# Altium footprint library Generic.PcbLib: 5 footprints
Each footprint in its own frame and in the unit in brackets; x right, y up, seen from the top. Pads: shape width x height; smd on the part's side, far side on the other; paste and mask are expansions set on the pad; w line width, h text height; cw(c..) or ccw(c..) is an arc to the next point about the centre after c.
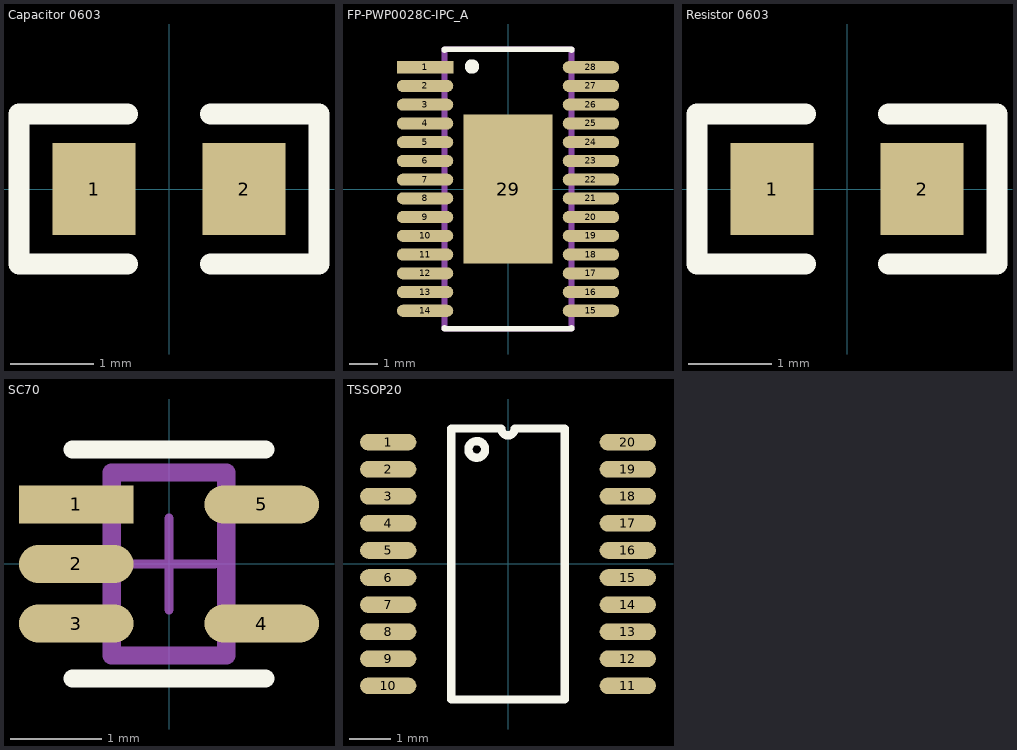
[diagram p0: the footprints below, top view; thin cyan lines are the x and y axes]

## Capacitor 0603 [mm]
pads (2):
  rect 1x1.1 smd: 1(-0.9,0) 2(0.9,0)
Top Overlay:
  lines w0.254: -0.5,-0.9 -1.8,-0.9 -1.8,0.9 -0.5,0.9 ; 0.5,-0.9 1.8,-0.9 1.8,0.9 0.5,0.9
3D body "CL10F104ZB8NNNC.STEP": height 0.9, standoff 0, extent -0.8,-0.4 0.8,0.4

## FP-PWP0028C-IPC_A [mm]
pads (29):
  rect 1.955x0.421 smd paste+0 mask+0: 1(-2.875,4.225)
  rrect100% 1.955x0.421 smd paste+0 mask+0: 2(-2.875,3.575) 3(-2.875,2.925) 4(-2.875,2.275) 5(-2.875,1.625) 6(-2.875,0.975) 7(-2.875,0.325) 8(-2.875,-0.325) 9(-2.875,-0.975) 10(-2.875,-1.625) 11(-2.875,-2.275) 12(-2.875,-2.925) 13(-2.875,-3.575) 14(-2.875,-4.225) 15(2.875,-4.225) 16(2.875,-3.575) 17(2.875,-2.925) 18(2.875,-2.275) 19(2.875,-1.625) 20(2.875,-0.975) 21(2.875,-0.325) 22(2.875,0.325) 23(2.875,0.975) 24(2.875,1.625) 25(2.875,2.275) 26(2.875,2.925) 27(2.875,3.575) 28(2.875,4.225)
  rect 3.1x5.18 smd paste-1000 mask+0: 29(0,0)
Top Overlay:
  circle w0.25: c-1.25,4.25 r0.125
  lines w0.2: -2.2,-4.81 -2.2,-4.85 2.2,-4.85 2.2,-4.81 ; -2.2,4.81 -2.2,4.85 2.2,4.85 2.2,4.81
Top Paste:
  rectangle: -1.033,-2.073 1.033,-0.258
  rectangle: -1.033,0.258 1.033,2.073
Top 3D Body:
  lines w0.2: -2.2,-4.85 -2.2,4.85 2.2,4.85 2.2,-4.85 -2.2,-4.85
Top Component Center:
  lines w0.1: -0.5,0 0.5,0 ; 0,-0.5 0,0.5
3D body "IC_Texas_Instruments_DRV8880PWPR_eec.STEP": height 1.2, standoff 0, extent -3.2,-4.85 3.2,4.85

## Resistor 0603 [mm]
pads (2):
  rect 1x1.1 smd: 1(-0.9,0) 2(0.9,0)
Top Overlay:
  lines w0.254: -0.5,-0.9 -1.8,-0.9 -1.8,0.9 -0.5,0.9 ; 0.5,-0.9 1.8,-0.9 1.8,0.9 0.5,0.9
3D body "RC0603JR-070RL--3DModel-STEP-510211.STEP": height 0.55, standoff 0, extent -0.8,-0.4 0.8,0.4

## SC70 [mm]
pads (5):
  rect 1.25x0.416 smd paste+0 mask+0: 1(-1.014,0.65)
  rrect100% 1.25x0.416 smd paste+0 mask+0: 2(-1.014,0) 3(-1.014,-0.65) 4(1.014,-0.65) 5(1.014,0.65)
Top Overlay:
  lines w0.2: -1.05,-1.25 1.05,-1.25 ; -1.05,1.25 1.05,1.25
Top 3D Body:
  lines w0.2: -0.625,-1 0.625,-1 0.625,1 -0.625,1 -0.625,-1
Top Component Center:
  lines w0.1: -0.5,0 0.5,0 ; 0,-0.5 0,0.5
3D body "IC_Texas_Instruments_SN74AHC1G04DCKR_eec.STEP": height 0.25, standoff 0, extent -1.65,-1.325 1.65,1.325

## TSSOP20 [mm]
pads (20):
  oval 1.35x0.4 smd: 1(-2.875,2.925) 2(-2.875,2.275) 3(-2.875,1.625) 4(-2.875,0.975) 5(-2.875,0.325) 6(-2.875,-0.325) 7(-2.875,-0.975) 8(-2.875,-1.625) 9(-2.875,-2.275) 10(-2.875,-2.925) 11(2.875,-2.925) 12(2.875,-2.275) 13(2.875,-1.625) 14(2.875,-0.975) 15(2.875,-0.325) 16(2.875,0.325) 17(2.875,0.975) 18(2.875,1.625) 19(2.875,2.275) 20(2.875,2.925)
Top Overlay:
  circle w0.2: c-0.75,2.75 r0.2
  lines w0.2: -1.365,-3.25 1.365,-3.25 1.365,3.25 0.162,3.25 cw(c0,3.25) -0.162,3.25 -1.365,3.25 -1.365,-3.25
3D body "STM32G031F6P6.step": height 1.2, standoff 0, extent -3.149,-3.321 3.251,3.179